# Altium schematic symbol library HoangLong_Library.SchLib: 79 symbols
Pins are listed as number, name and electrical type; pins without a type are passive.

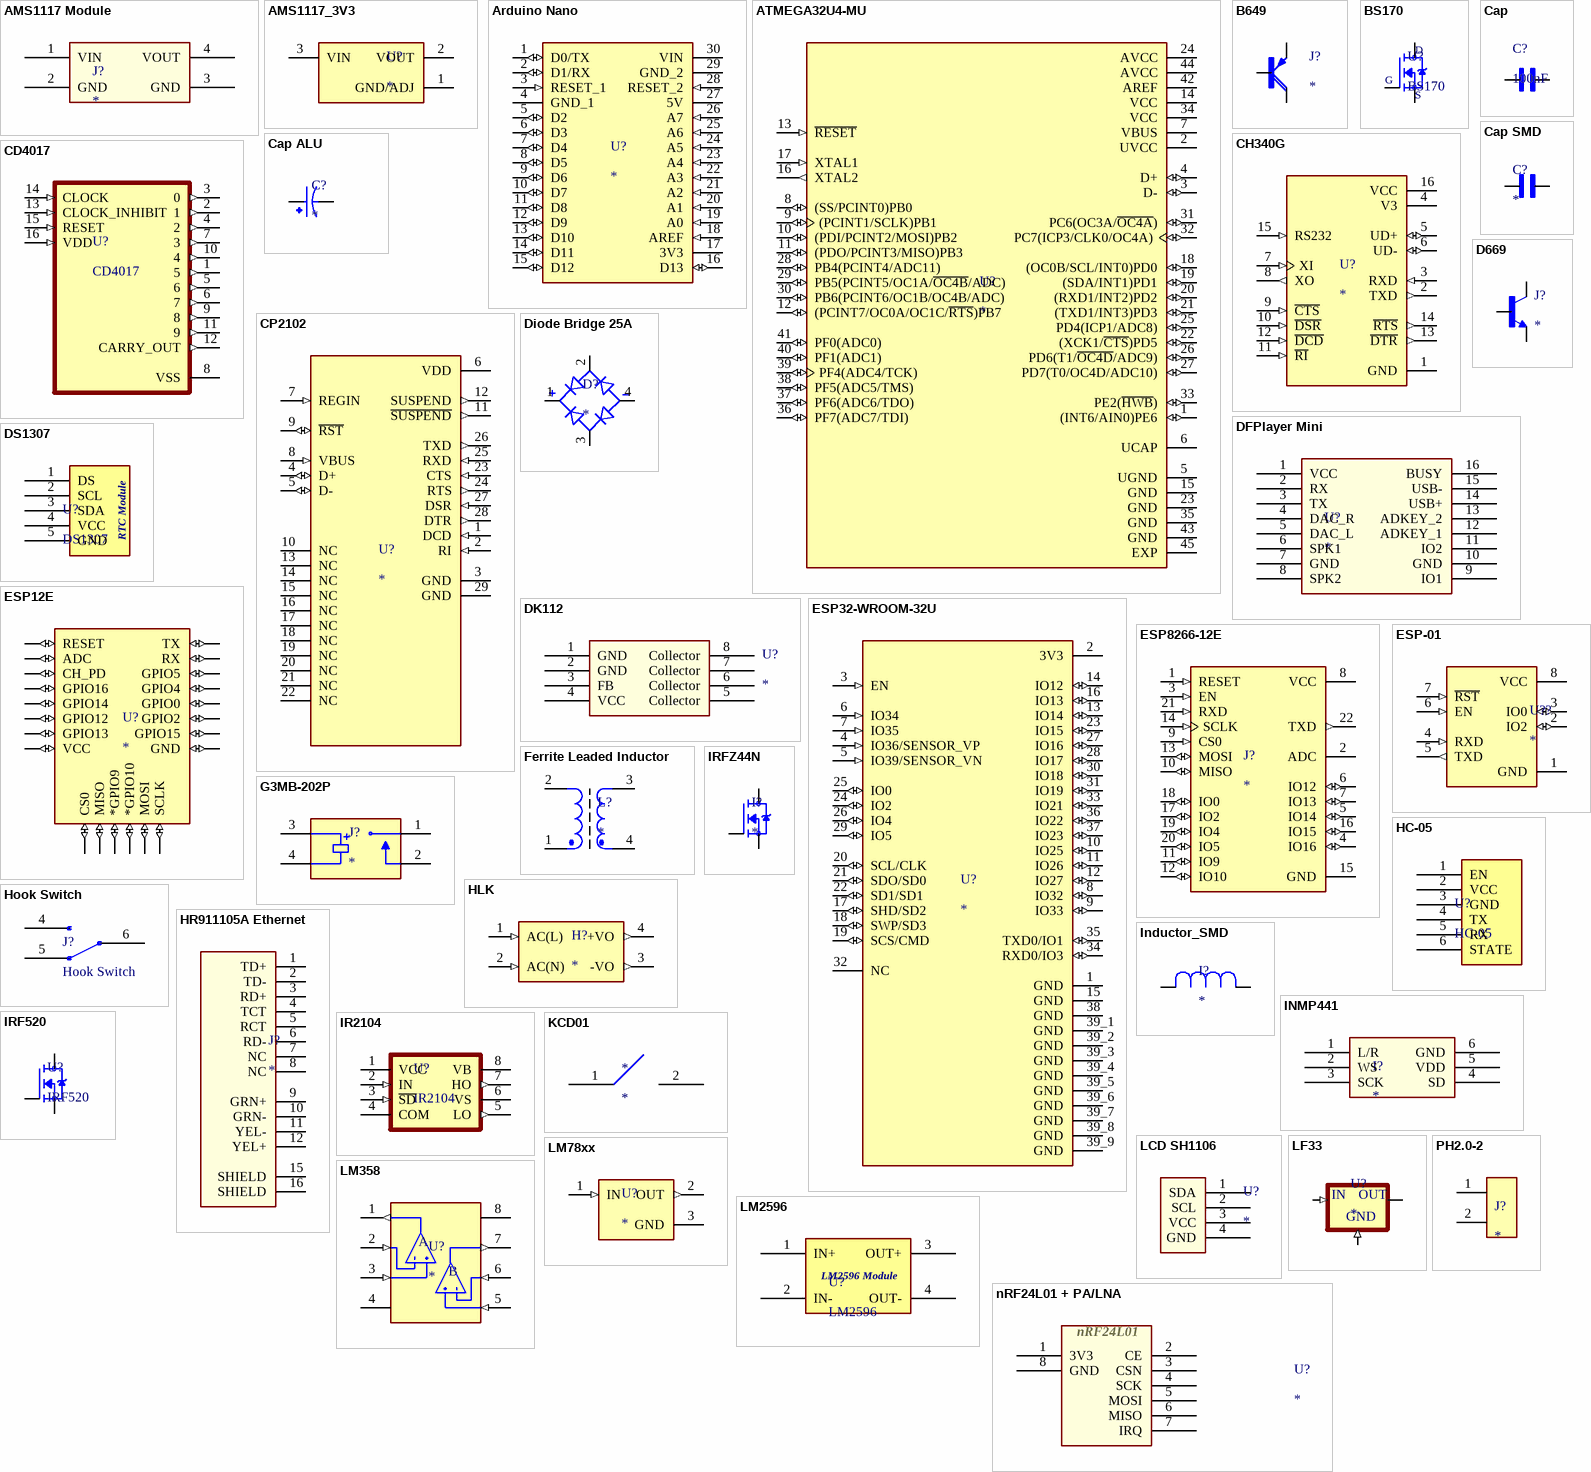
[diagram p0: symbols AMS1117 Module to PH2.0-2]

## AMS1117 Module
designator J?
AMS1117 Module 25x11mm
footprint AMS1117 module
pins: 1 VIN, 2 GND, 3 GND, 4 VOUT

## AMS1117_3V3
designator U?
footprint AMS1117_3v3
pins: 1 GND/ADJ (power), 2 VOUT, 3 VIN

## Arduino Nano
designator U?
ATSAMD21G18A Arduino Nano 33 IoT series ARMÂ® CortexÂ®-M0+ MCU 32-Bit Embedded Evaluation Board
footprint Arduino Nano
pins: 1 D0/TX (io), 2 D1/RX (io), 3 RESET_1 (in), 4 GND_1 (power), 5 D2 (io), 6 D3 (io), 7 D4 (io), 8 D5 (io), 9 D6 (io), 10 D7 (io), 11 D8 (io), 12 D9 (io), 13 D10 (io), 14 D11 (io), 15 D12 (io), 16 D13 (io), 17 3V3 (power), 18 AREF (in), 19 A0 (in), 20 A1 (in), 21 A2 (in), 22 A3 (in), 23 A4 (in), 24 A5 (in), 25 A6 (in), 26 A7 (in), 27 5V (power), 28 RESET_2 (in), 29 GND_2 (power), 30 VIN (power)

## ATMEGA32U4-MU
designator U?
IC, 8-BIT MCU, ASSP AVR, 16MHZ, 44-VQFN; Controller Family/Series:AVR MEGA; Core Size:8bit; No. of I/O's:26; Supply Voltage Range:2.7V to 5.5V; Digital IC Case Style:VQFN; No. of Pins:44; Program Memory Size:32 KB ;RoHS Compliant: Yes
footprint VQFN-44
pins: 1 (INT6/AIN0)PE6 (io), 2 UVCC (power), 3 D- (io), 4 D+ (io), 5 UGND (power), 6 UCAP, 7 VBUS (power), 8 (SS/PCINT0)PB0 (io), 9 (PCINT1/SCLK)PB1 (io), 10 (PDI/PCINT2/MOSI)PB2 (io), 11 (PDO/PCINT3/MISO)PB3 (io), 12 (PCINT7/OC0A/OC1C/~{RTS})PB7 (io), 13 ~{RESET} (in), 14 VCC (power), 15 GND (power), 16 XTAL2 (out), 17 XTAL1 (in), 18 (OC0B/SCL/INT0)PD0 (io), 19 (SDA/INT1)PD1 (io), 20 (RXD1/INT2)PD2 (io), 21 (TXD1/INT3)PD3 (io), 22 (XCK1/~{CTS})PD5 (io), 23 GND (power), 24 AVCC (power), 25 PD4(ICP1/ADC8) (io), 26 PD6(T1/~{OC4D}/ADC9) (io), 27 PD7(T0/OC4D/ADC10) (io), 28 PB4(PCINT4/ADC11) (io), 29 PB5(PCINT5/OC1A/~{OC4B}/ADC) (io), 30 PB6(PCINT6/OC1B/OC4B/ADC) (io), 31 PC6(OC3A/~{OC4A}) (io), 32 PC7(ICP3/CLK0/OC4A) (io), 33 PE2(~{HWB}) (io), 34 VCC (power), 35 GND (power), 36 PF7(ADC7/TDI) (io), 37 PF6(ADC6/TDO) (io), 38 PF5(ADC5/TMS) (io), 39 PF4(ADC4/TCK) (io), 40 PF1(ADC1) (io), 41 PF0(ADC0) (io), 42 AREF (power), 43 GND (power), 44 AVCC (power), 45 EXP

## B649
designator J?
TO-126 PNP 1.5A 160V
footprint TO-126 PNP
pins: 1 E, 2 C, 3 B

## BS170
designator U?
BS170 MOSFET N-CH 60V 500mA
footprint BS170 (BS170 MOSFET N-CH 60V 500mA)
pins: 1 G, 2 D, 3 S

## Cap
designator C?, comment 100nF
footprint 2A104J-CL11
footprint 100pF
pins: 1, 2

## Cap ALU
designator C?
Cap ALU
footprint CAP-ALU-10x10.2
footprint Cap_35x60
pins: 1, 2

## Cap SMD
designator C?
Cap Ceramic
footprint Cap 10uF 35V 1210
footprint Cap 100nF 50V 1206
pins: 1, 2

## CD4017
designator U?
SMD
footprint CD4017 (SMD)
pins: 1 5 (out), 2 1 (out), 3 0 (out), 4 2 (out), 5 6 (out), 6 7 (out), 7 3 (out), 8 VSS (power), 9 8 (out), 10 4 (out), 11 9 (out), 12 CARRY_OUT (out), 13 CLOCK_INHIBIT (in), 14 CLOCK (in), 15 RESET (in), 16 VDD (in)

## CH340G
designator U?
USB Interface Integrated Circuit
footprint CH340G
pins: 1 GND (power), 2 TXD (out), 3 RXD (in), 4 V3 (power), 5 UD+ (io), 6 UD- (io), 7 XI (in), 8 XO (out), 9 ~{CTS} (in), 10 ~{DSR} (in), 11 ~{RI} (in), 12 ~{DCD} (in), 13 ~{DTR} (out), 14 ~{RTS} (out), 15 RS232 (in), 16 VCC (power)

## CP2102
designator U?
CP2102N USB 2.0 to UART (RS232) Bridge Interface Evaluation Board
footprint QFN-28
pins: 1 DCD (in), 2 RI (in), 3 GND (power), 4 D+ (io), 5 D- (io), 6 VDD (power), 7 REGIN (in), 8 VBUS (in), 9 ~{RST} (io), 10 NC, 11 ~{SUSPEND} (out), 12 SUSPEND (out), 13 NC, 14 NC, 15 NC, 16 NC, 17 NC, 18 NC, 19 NC, 20 NC, 21 NC, 22 NC, 23 CTS (in), 24 RTS (out), 25 RXD (in), 26 TXD (out), 27 DSR (in), 28 DTR (out), 29 GND (power)

## D669
designator J?
TO-126 NPN 1.5A 160V
footprint TO-126 NPN
pins: 1 E, 2 C, 3 B

## DFPlayer Mini
designator U?
footprint DFPlayer Mini
pins: 1 VCC, 2 RX, 3 TX, 4 DAC_R, 5 DAC_L, 6 SPK1, 7 GND, 8 SPK2, 9 IO1, 10 GND, 11 IO2, 12 ADKEY_1, 13 ADKEY_2, 14 USB+, 15 USB-, 16 BUSY

## Diode Bridge 25A
designator D?
footprint Diode bridge 25A
pins: 1 POS, 2 AC1, 3 AC2, 4 NEG

## DK112
designator U?
OFF LINE SWITCH MODE POWER SUPPLY IC
footprint DIP8/W0.3 (8 PIN, W 300mil, Pin to pin 100mil)
pins: 1 GND, 2 GND, 3 FB, 4 VCC, 5 Collector, 6 Collector, 7 Collector, 8 Collector

## DS1307
designator U?
RTC Module DS1307
footprint DS1307
pins: 1 DS, 2 SCL, 3 SDA, 4 VCC, 5 GND
text: RTC Module

## ESP12E
designator U?
FLEXYPIN ADAPTER - ESP-07/ESP-12
footprint ESP12E
pins: ADC (io), CH_PD (io), CS0 (io), GND (io), GPIO0 (io), GPIO2 (io), GPIO4 (io), GPIO5 (io), GPIO9 *GPIO9 (io), GPIO10 *GPIO10 (io), GPIO12 (io), GPIO13 (io), GPIO14 (io), GPIO15 (io), GPIO16 (io), MISO (io), MOSI (io), RESET (io), RXD0 RX (io), SCLK (io), TXD0 TX (io), VCC (io)

## ESP32-WROOM-32U
designator U?
Bluetooth, WiFi 802.11b/g/n, Bluetooth v4.2 +EDR, Class 1, 2 and 3 Transceiver Module 2.4GHz ~ 2.5GHz Antenna Not Included, U.FL Surface Mount
footprint ESP32-WROOM-32U
pins: 1 GND (power), 2 3V3 (power), 3 EN (in), 4 IO36/SENSOR_VP (in), 5 IO39/SENSOR_VN (in), 6 IO34 (in), 7 IO35 (in), 8 IO32 (io), 9 IO33 (io), 10 IO25 (io), 11 IO26 (io), 12 IO27 (io), 13 IO14 (io), 14 IO12 (io), 15 GND (power), 16 IO13 (io), 17 SHD/SD2 (io), 18 SWP/SD3 (io), 19 SCS/CMD (io), 20 SCL/CLK (io), 21 SDO/SD0 (io), 22 SD1/SD1 (io), 23 IO15 (io), 24 IO2 (io), 25 IO0 (io), 26 IO4 (io), 27 IO16 (io), 28 IO17 (io), 29 IO5 (io), 30 IO18 (io), 31 IO19 (io), 32 NC, 33 IO21 (io), 34 RXD0/IO3 (io), 35 TXD0/IO1 (io), 36 IO22 (io), 37 IO23 (io), 38 GND (power), 39_1 GND (power), 39_2 GND (power), 39_3 GND (power), 39_4 GND (power), 39_5 GND (power), 39_6 GND (power), 39_7 GND (power), 39_8 GND (power), 39_9 GND (power)

## ESP8266-12E
designator J?
ESP-12E ESP8266 AI-Thinker Mạch Thu Phát WiFi
footprint ESP8266-12E
pins: 1 RESET (in), 2 ADC, 3 EN (in), 4 IO16 (io), 5 IO14 (io), 6 IO12 (io), 7 IO13 (io), 8 VCC (power), 9 CS0 (in), 10 MISO (io), 11 IO9 (io), 12 IO10 (io), 13 MOSI (io), 14 SCLK (in), 15 GND (power), 16 IO15 (io), 17 IO2 (io), 18 IO0 (io), 19 IO4 (io), 20 IO5 (io), 21 RXD (in), 22 TXD (out)

## ESP-01
designator U??
ESP-01 Serial Wireless WiFi Transceiver Receiver Module 1MB SPI Flash DC3.0-3.6V
footprint ESP-01
pins: 1 GND (power), 2 IO2 (io), 3 IO0 (io), 4 RXD (in), 5 TXD (out), 6 EN (in), 7 ~{RST} (in), 8 VCC (power)

## Ferrite Leaded Inductor
designator L?
Ferrite Leaded Inductor
footprint Ferrite Leaded Inductor
pins: 1, 2, 3, 4

## G3MB-202P
designator J?
Solid State SPST-NO (1 Form A) 4-SIP
footprint G3MB-202P
pins: 1, 2, 3, 4

## HC-05
designator U?
Bluetooth Module HC-05
footprint HC-05
pins: 1 EN, 2 VCC, 3 GND, 4 TX, 5 RX, 6 STATE

## HLK
designator H?
Ultra-small series module power supply
footprint HLK-20M05
pins: 1 AC(L) (in), 2 AC(N) (in), 3 -VO (out), 4 +VO (out)

## Hook Switch
designator J?
Telephone Switch
footprint Hook Switch
pins: 4, 5, 6

## HR911105A Ethernet
designator J?
Ethernet
footprint HR911105A Ethernet
pins: 1 TD+, 2 TD-, 3 RD+, 4 TCT, 5 RCT, 6 RD-, 7 NC (power), 8 NC (power), 9 GRN+, 10 GRN-, 11 YEL-, 12 YEL+, 15 SHIELD, 16 SHIELD

## Inductor_SMD
designator I?
CDRH127
footprint Inductor-CDRH127
footprint Inductor SMD
pins: 1, 2

## INMP441
designator I?
INMP441
footprint INMP411
pins: 1 L/R, 2 WS, 3 SCK, 4 SD, 5 VDD, 6 GND

## IR2104
designator U?
IR2104SPBF MOSFET 2 Ngõ Ra, 360 mA, 20V 8-SOIC
footprint IR2104 (IR2104SPBF MOSFET 2 Ngõ Ra, 360 mA, 20V 8-SOIC)
pins: 1 VCC (power), 2 IN (in), 3 ~{SD} (in), 4 COM, 5 LO (out), 6 VS (power), 7 HO (out), 8 VB (power)

## IRF520
designator U?
IRF520NPBF MOSFET Kênh N 100V 9.7A
footprint IRF520 (SMD)
pins: 1 G, 2 D, 3 S

## IRFZ44N
designator I?
RoHS Compliant | Low RDS(on) | Industry-leading quality | Dynamic dv/dt Rating | Fast Switching | Fully Avalanche Rated | 175C Operating Temperature
footprint TO-263 aka D2PAK
pins: 1 G, 2 D, 3 S

## KCD01
designator *
footprint KCD01
pins: 1, 2

## LCD SH1106
designator U?
footprint LCD SH1106
pins: 1 SDA, 2 SCL, 3 VCC, 4 GND

## LF33
designator U?
Linear Voltage Regulator IC Positive Fixed 1 Output 500mA DPAK
footprint TO-252 aka DPAK
pins: 1 IN (in), 3 OUT, 4 GND (in)

## LM78xx
designator U?
Linear Voltage Regulator IC Positive Fixed 1 Output 1.5A D2PAK
footprint QTO220-H1
footprint QTO220-H2
footprint TO-263
pins: 1 IN (in), 2 OUT (out), 3 GND (power)

## LM358
designator U?
Dual standard operational amplifier 8-SOIC 0 to 70
footprint LM358 SOIC-8
pins: 1 OUT1 (out), 2 IN1- (in), 3 IN1+ (in), 4 V- (power), 5 IN2+ (in), 6 IN2- (in), 7 OUT2 (out), 8 V+ (power)
text: A; B

## LM2596
designator U?
DC-DC Buck Converter
footprint LM2596
pins: 1 IN+, 2 IN-, 3 OUT+, 4 OUT-
text: LM2596 Module

## nRF24L01 + PA/LNA
designator U?
footprint nRF24L01 + PA/LNA
pins: 1 3V3, 2 CE, 3 CSN, 4 SCK, 5 MOSI, 6 MISO, 7 IRQ, 8 GND
text: nRF24L01

## PH2.0-2
designator J?
PH2.0-2
footprint PH2.0-2
pins: 1, 2

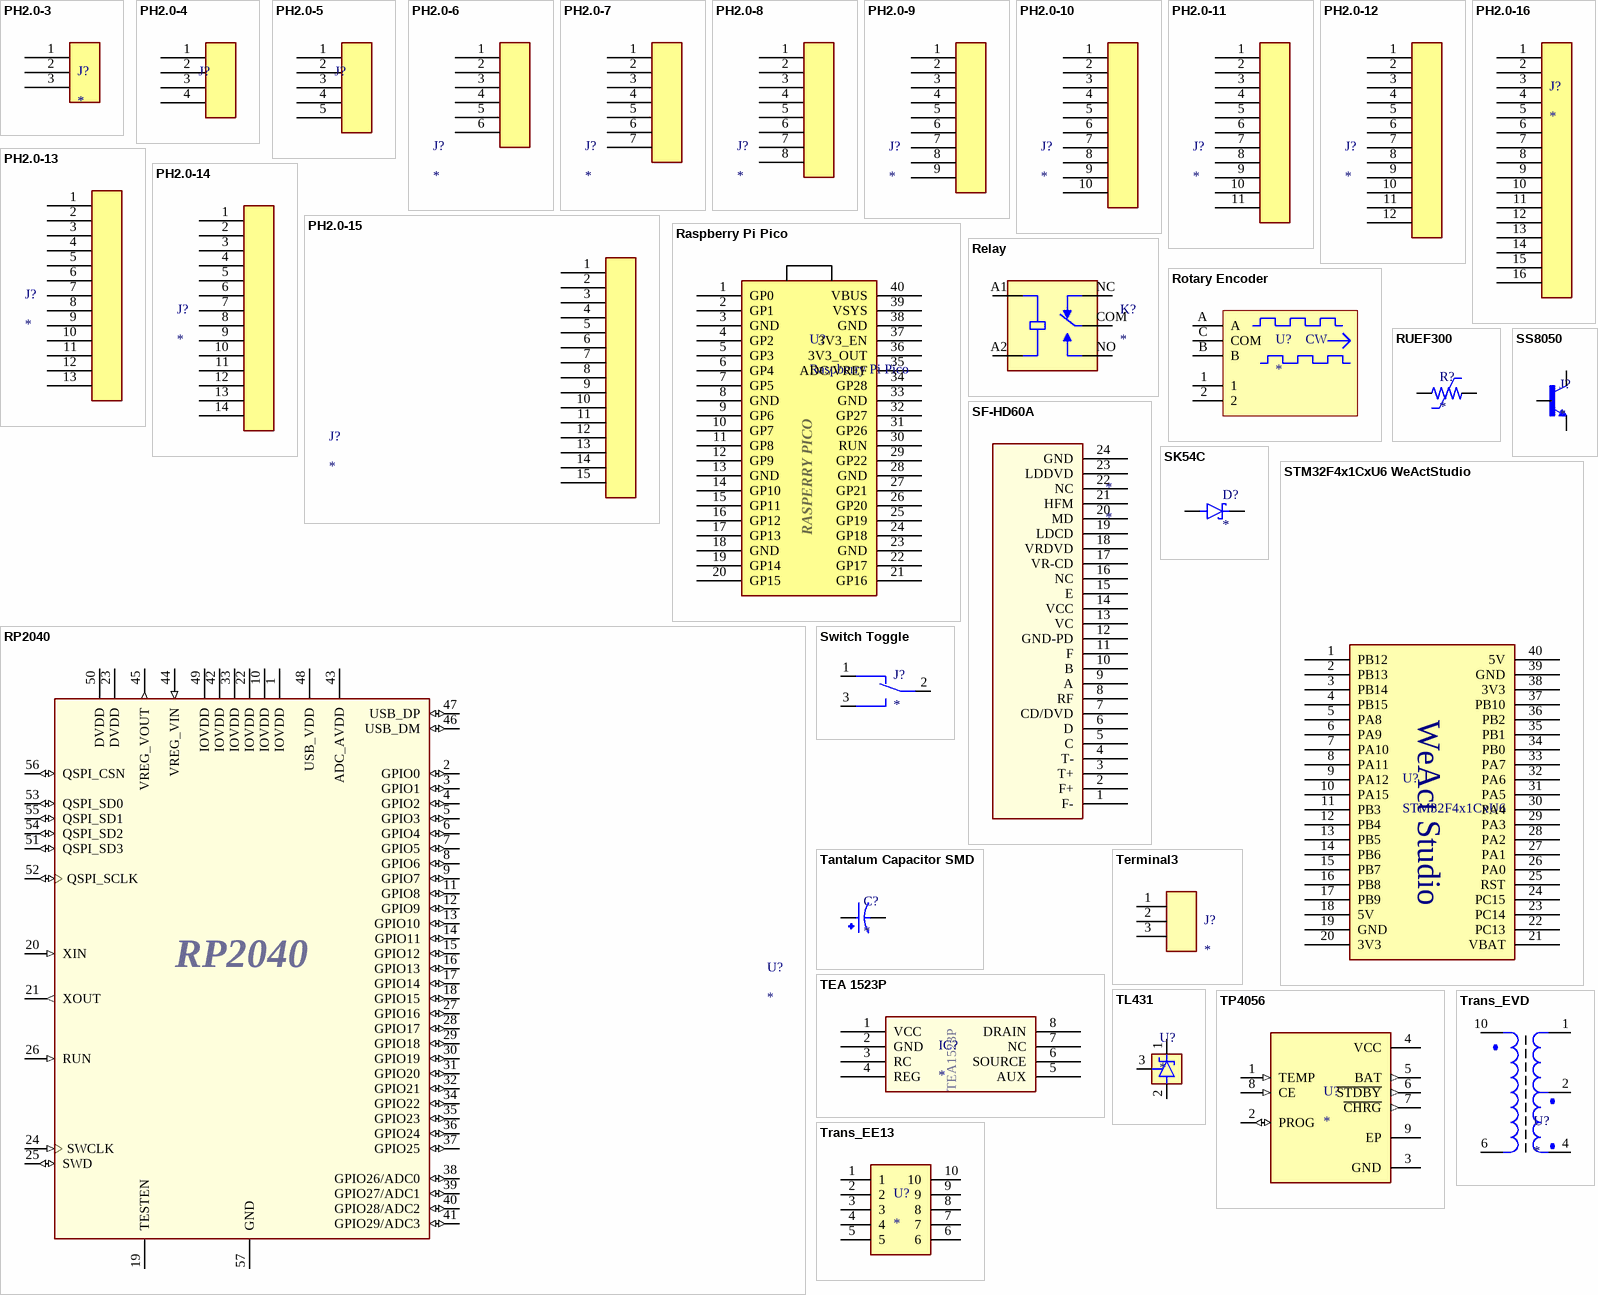
[diagram p1: symbols PH2.0-3 to Trans_EVD]

## PH2.0-3
designator J?
PH2.0-3
footprint PH2.0-3
pins: 1, 2, 3

## PH2.0-4
designator J?
PH2.0-4
footprint PH2.0-4
pins: 1, 2, 3, 4

## PH2.0-5
designator J?
PH2.0-5
footprint PH2.0-5
pins: 1, 2, 3, 4, 5

## PH2.0-6
designator J?
PH2.0-6
footprint PH2.0-6
pins: 1, 2, 3, 4, 5, 6

## PH2.0-7
designator J?
PH2.0-7
footprint PH2.0-7
pins: 1, 2, 3, 4, 5, 6, 7

## PH2.0-8
designator J?
PH2.0-8
footprint PH2.0-8
pins: 1, 2, 3, 4, 5, 6, 7, 8

## PH2.0-9
designator J?
PH2.0-9
footprint PH2.0-9
pins: 1, 2, 3, 4, 5, 6, 7, 8, 9

## PH2.0-10
designator J?
PH2.0-10
footprint PH2.0-10
pins: 1, 2, 3, 4, 5, 6, 7, 8, 9, 10

## PH2.0-11
designator J?
PH2.0-11
footprint PH2.0-11
pins: 1, 2, 3, 4, 5, 6, 7, 8, 9, 10, 11

## PH2.0-12
designator J?
PH2.0-12
footprint PH2.0-12
pins: 1, 2, 3, 4, 5, 6, 7, 8, 9, 10, 11, 12

## PH2.0-13
designator J?
PH2.0-13
footprint PH2.0-13
pins: 1, 2, 3, 4, 5, 6, 7, 8, 9, 10, 11, 12, 13

## PH2.0-14
designator J?
PH2.0-14
footprint PH2.0-14
pins: 1, 2, 3, 4, 5, 6, 7, 8, 9, 10, 11, 12, 13, 14

## PH2.0-15
designator J?
PH2.0-15
footprint PH2.0-15
pins: 1, 2, 3, 4, 5, 6, 7, 8, 9, 10, 11, 12, 13, 14, 15

## PH2.0-16
designator J?
PH2.0-16
footprint PH2.0-16
pins: 1, 2, 3, 4, 5, 6, 7, 8, 9, 10, 11, 12, 13, 14, 15, 16

## Raspberry Pi Pico
designator U?
Raspberry Pi Pico Pins Down
footprint Raspberry Pi Pico
pins: 1 GP0, 2 GP1, 3 GND, 4 GP2, 5 GP3, 6 GP4, 7 GP5, 8 GND, 9 GP6, 10 GP7, 11 GP8, 12 GP9, 13 GND, 14 GP10, 15 GP11, 16 GP12, 17 GP13, 18 GND, 19 GP14, 20 GP15, 21 GP16, 22 GP17, 23 GND, 24 GP18, 25 GP19, 26 GP20, 27 GP21, 28 GND, 29 GP22, 30 RUN, 31 GP26, 32 GP27, 33 GND, 34 GP28, 35 ADC/VREF, 36 3V3_OUT, 37 3V3_EN, 38 GND, 39 VSYS, 40 VBUS
text: RASPERRY PICO

## Relay
designator K?
RELAY_SRD-05VDC 19 x 15,5 x 15,8
footprint PR12-5V-360-1C
pins: A1 COIL1, A2 COIL2, COM, NC, NO

## Rotary Encoder
designator U?
WS-ENTV Mechanical Incremental Encoder Switch, Metal Shaft with bushing, 8Pulse/360°, 16positions, 1
footprint Rotary Encoder
pins: 1, 2, A "Channel A", B "Channel B", C COM "Common"
text: CW

## RP2040
designator U?
RP2040 chip for Raspberry Pi Pico - ARM® Cortex®-M0+ MCU 32-Bit
footprint RP2040_Pico_SMD
pins: 1 IOVDD (power), 2 GPIO0 (io), 3 GPIO1 (io), 4 GPIO2 (io), 5 GPIO3 (io), 6 GPIO4 (io), 7 GPIO5 (io), 8 GPIO6 (io), 9 GPIO7 (io), 10 IOVDD (power), 11 GPIO8 (io), 12 GPIO9 (io), 13 GPIO10 (io), 14 GPIO11 (io), 15 GPIO12 (io), 16 GPIO13 (io), 17 GPIO14 (io), 18 GPIO15 (io), 19 TESTEN, 20 XIN (in), 21 XOUT (out), 22 IOVDD (power), 23 DVDD (power), 24 SWCLK (in), 25 SWD (io), 26 RUN (in), 27 GPIO16 (io), 28 GPIO17 (io), 29 GPIO18 (io), 30 GPIO19 (io), 31 GPIO20 (io), 32 GPIO21 (io), 33 IOVDD (power), 34 GPIO22 (io), 35 GPIO23 (io), 36 GPIO24 (io), 37 GPIO25 (io), 38 GPIO26/ADC0 (io), 39 GPIO27/ADC1 (io), 40 GPIO28/ADC2 (io), 41 GPIO29/ADC3 (io), 42 IOVDD (power), 43 ADC_AVDD (power), 44 VREG_VIN (in), 45 VREG_VOUT (out), 46 USB_DM (io), 47 USB_DP (io), 48 USB_VDD (power), 49 IOVDD (power), 50 DVDD (power), 51 QSPI_SD3 (io), 52 QSPI_SCLK (io), 53 QSPI_SD0 (io), 54 QSPI_SD2 (io), 55 QSPI_SD1 (io), 56 QSPI_CSN (io), 57 GND (power)

## RUEF300
designator R?
Polymeric PTC Resettable Fuse 30V 3 A Ih Through Hole Radial, Disc
footprint RUEF300
pins: P$1 1, P$2 2

## SF-HD60A
designator *
pins: 1 F-, 2 F+, 3 T+, 4 T-, 5 C, 6 D, 7 CD/DVD, 8 RF, 9 A, 10 B, 11 F, 12 GND-PD, 13 VC, 14 VCC, 15 E, 16 NC, 17 VR-CD, 18 VRDVD, 19 LDCD, 20 MD, 21 HFM, 22 NC, 23 LDDVD, 24 GND

## SK54C
designator D?
Diode 5A 40V
footprint SK54C (Diode)
pins: A, C K

## SS8050
designator J?
Bipolar (BJT) Transistor NPN 25 V 1.5 A 100MHz 300 mW Surface Mount SOT-23-3
footprint SS8050
pins: 1 B, 2 E, 3 C

## STM32F4x1CxU6 WeActStudio
designator U?, comment STM32F4x1CxU6
ComponentLink1Description: WeAct Studio; ComponentLink1URL: WeAct-TC.cn; ComponentLink2Description: MiniF4-STM32F4x1 Github; ComponentLink2URL: https://github.com/WeActTC/MiniF4-STM32F4x1; ComponentLink3Description: MiniF4-STM32F4x1 Gitee; ComponentLink3URL: https://gitee.com/WeAct-TC/MiniF4-STM32F4x1
footprint STM32F411CEU
pins: 1 PB12, 2 PB13, 3 PB14, 4 PB15, 5 PA8, 6 PA9, 7 PA10, 8 PA11, 9 PA12, 10 PA15, 11 PB3, 12 PB4, 13 PB5, 14 PB6, 15 PB7, 16 PB8, 17 PB9, 18 5V, 19 GND, 20 3V3, 21 VBAT, 22 PC13, 23 PC14, 24 PC15, 25 RST, 26 PA0, 27 PA1, 28 PA2, 29 PA3, 30 PA4, 31 PA5, 32 PA6, 33 PA7, 34 PB0, 35 PB1, 36 PB2, 37 PB10, 38 3V3, 39 GND, 40 5V

## Switch Toggle
designator J?
Switch Toggle On-Off
footprint Switch Toggle ON
footprint Switch toggle_2
pins: 1, 2, 3

## Tantalum Capacitor SMD
designator C?
2.2µF Molded Tantalum Capacitors 10V 1206
footprint Tantalum Capacitor
pins: 1, 2

## TEA 1523P
designator IC?
footprint DIP8/W0.3 (8 PIN, W 300mil, Pin to pin 100mil)
pins: 1 VCC, 2 GND, 3 RC, 4 REG, 5 AUX, 6 SOURCE, 7 NC, 8 DRAIN
text: TEA1523P

## Terminal3
designator J?
footprint Terminal-3 pins
pins: 1, 2, 3

## TL431
designator U?
Shunt Voltage Reference IC Adjustable 2.495V 36 VV ±2.2% 100 mA TO-92 (TO-226)
footprint TO-92-tl431
pins: 1 CATHODE, 2 ANODE, 3 REF

## TP4056
designator U?
Complete single cell Li-Ion battery with a constant current / constant voltage linear charger
footprint TP4056
pins: 1 TEMP (in), 2 PROG (io), 3 GND (power), 4 VCC (power), 5 BAT (out), 6 ~{STDBY} (out), 7 ~{CHRG} (out), 8 CE (in), 9 EP

## Trans_EE13
designator U?
TRANSFORMER EE13
footprint Transformer_EE13
pins: 1, 2, 3, 4, 5, 6, 7, 8, 9, 10

## Trans_EVD
designator U?
footprint Transformer_EE13
pins: 1, 2, 4, 6 3, 10 1

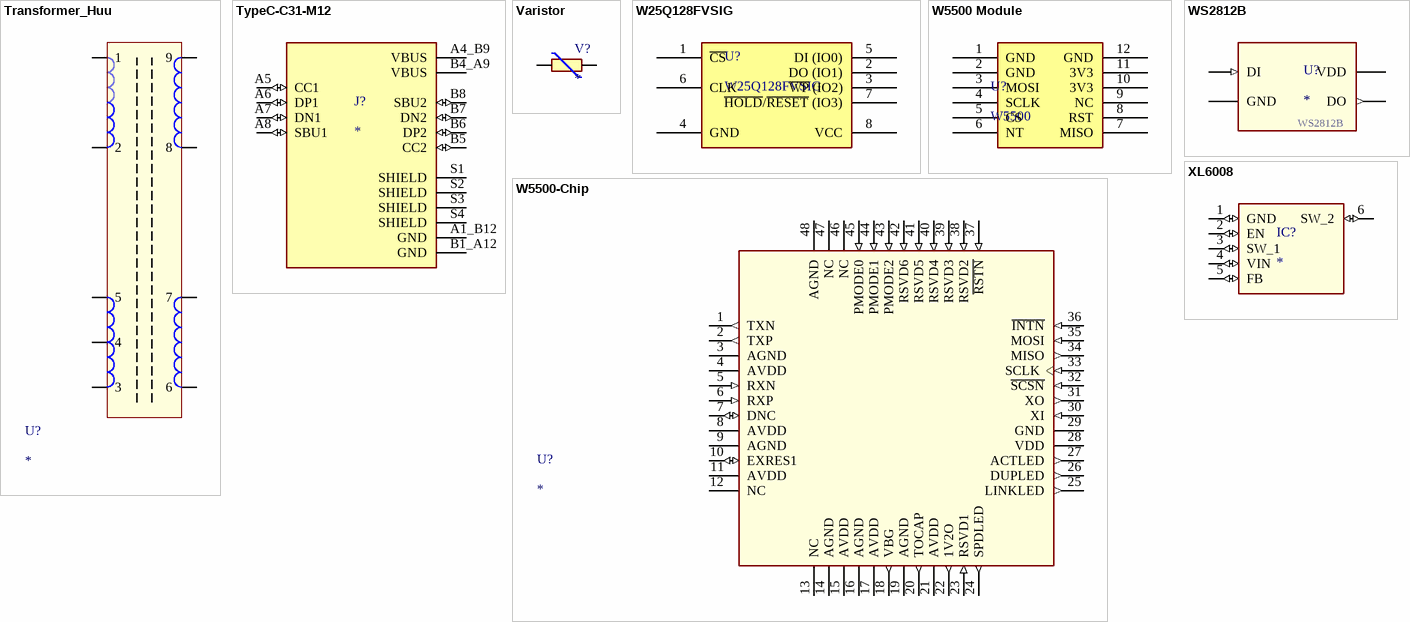
[diagram p2: symbols Transformer_Huu to XL6008]

## Transformer_Huu
designator U?
pins: 1, 2, 3, 4, 5, 6, 7, 8, 9

## TypeC-C31-M12
designator J?
USB Connectors 24 Receptacle 1 8.94*7.3mm RoHS
footprint TypeC-C31-M12
pins: A1_B12 GND (power), A4_B9 VBUS (power), A5 CC1 (io), A6 DP1 (io), A7 DN1 (io), A8 SBU1 (io), B1_A12 GND (power), B4_A9 VBUS (power), B5 CC2 (io), B6 DP2 (io), B7 DN2 (io), B8 SBU2 (io), S1 SHIELD, S2 SHIELD, S3 SHIELD, S4 SHIELD

## Varistor
designator V?
560 V 2.5 kA Varistor 1 Circuit Through Hole Disc 10mm
footprint Varistor
pins: 1, 2

## W25Q128FVSIG
designator U?
footprint W25Q128FVSIG
pins: 1 ~{CS}, 2 DO (IO1), 3 ~{WP} (IO2), 4 GND, 5 DI (IO0), 6 CLK, 7 ~{HOLD}/~{RESET} (IO3), 8 VCC

## W5500 Module
designator U?, comment W5500
USR-E1 W5500
footprint W5500
pins: 1 GND, 2 GND, 3 MOSI, 4 SCLK, 5 CS, 6 NT, 7 MISO, 8 RST, 9 NC, 10 3V3, 11 3V3, 12 GND

## W5500-Chip
designator U?
Ethernet Controller 10/100 Base-T/TX PHY SPI Interface 48-LQFP (7x7)
footprint LQFP48
pins: 1 TXN (out), 2 TXP (out), 3 AGND (power), 4 AVDD (power), 5 RXN (in), 6 RXP (in), 7 DNC (io), 8 AVDD (power), 9 AGND (power), 10 EXRES1 (io), 11 AVDD (power), 12 NC, 13 NC, 14 AGND (power), 15 AVDD (power), 16 AGND (power), 17 AVDD (power), 18 VBG (out), 19 AGND (power), 20 TOCAP (out), 21 AVDD (power), 22 1V2O (out), 23 RSVD1 (in), 24 SPDLED (out), 25 LINKLED (out), 26 DUPLED (out), 27 ACTLED (out), 28 VDD (power), 29 GND, 30 XI (in), 31 XO (out), 32 ~{SCSN} (in), 33 SCLK (in), 34 MISO (out), 35 MOSI (in), 36 ~{INTN} (in), 37 ~{RSTN} (in), 38 RSVD2 (in), 39 RSVD3 (in), 40 RSVD4 (in), 41 RSVD5 (in), 42 RSVD6 (in), 43 PMODE2 (in), 44 PMODE1 (in), 45 PMODE0 (in), 46 NC, 47 NC, 48 AGND (power)

## WS2812B
designator U?
footprint WS2812
pins: 1-VDD VDD (power), 2-DOUT DO (out), 3-GND GND (power), 4-DIN DI (in)

## XL6008
designator IC?
The XL6008 regulator is a wide input range, current mode, DC/DC converter which is capable of generating either positive or negative output voltages.
footprint XL6008
pins: 1 GND (io), 2 EN (io), 3 SW_1 (io), 4 VIN (io), 5 FB (io), 6 SW_2 (io)